# Altium footprint library Capacitor Non-Polar Disc.PcbLib: 220 footprints (part 3 of 14)
Each footprint in its own frame and in the unit in brackets; x right, y up, seen from the top. Pads: shape width x height; smd on the part's side, far side on the other; paste and mask are expansions set on the pad; w line width, h text height; cw(c..) or ccw(c..) is an arc to the next point about the centre after c.
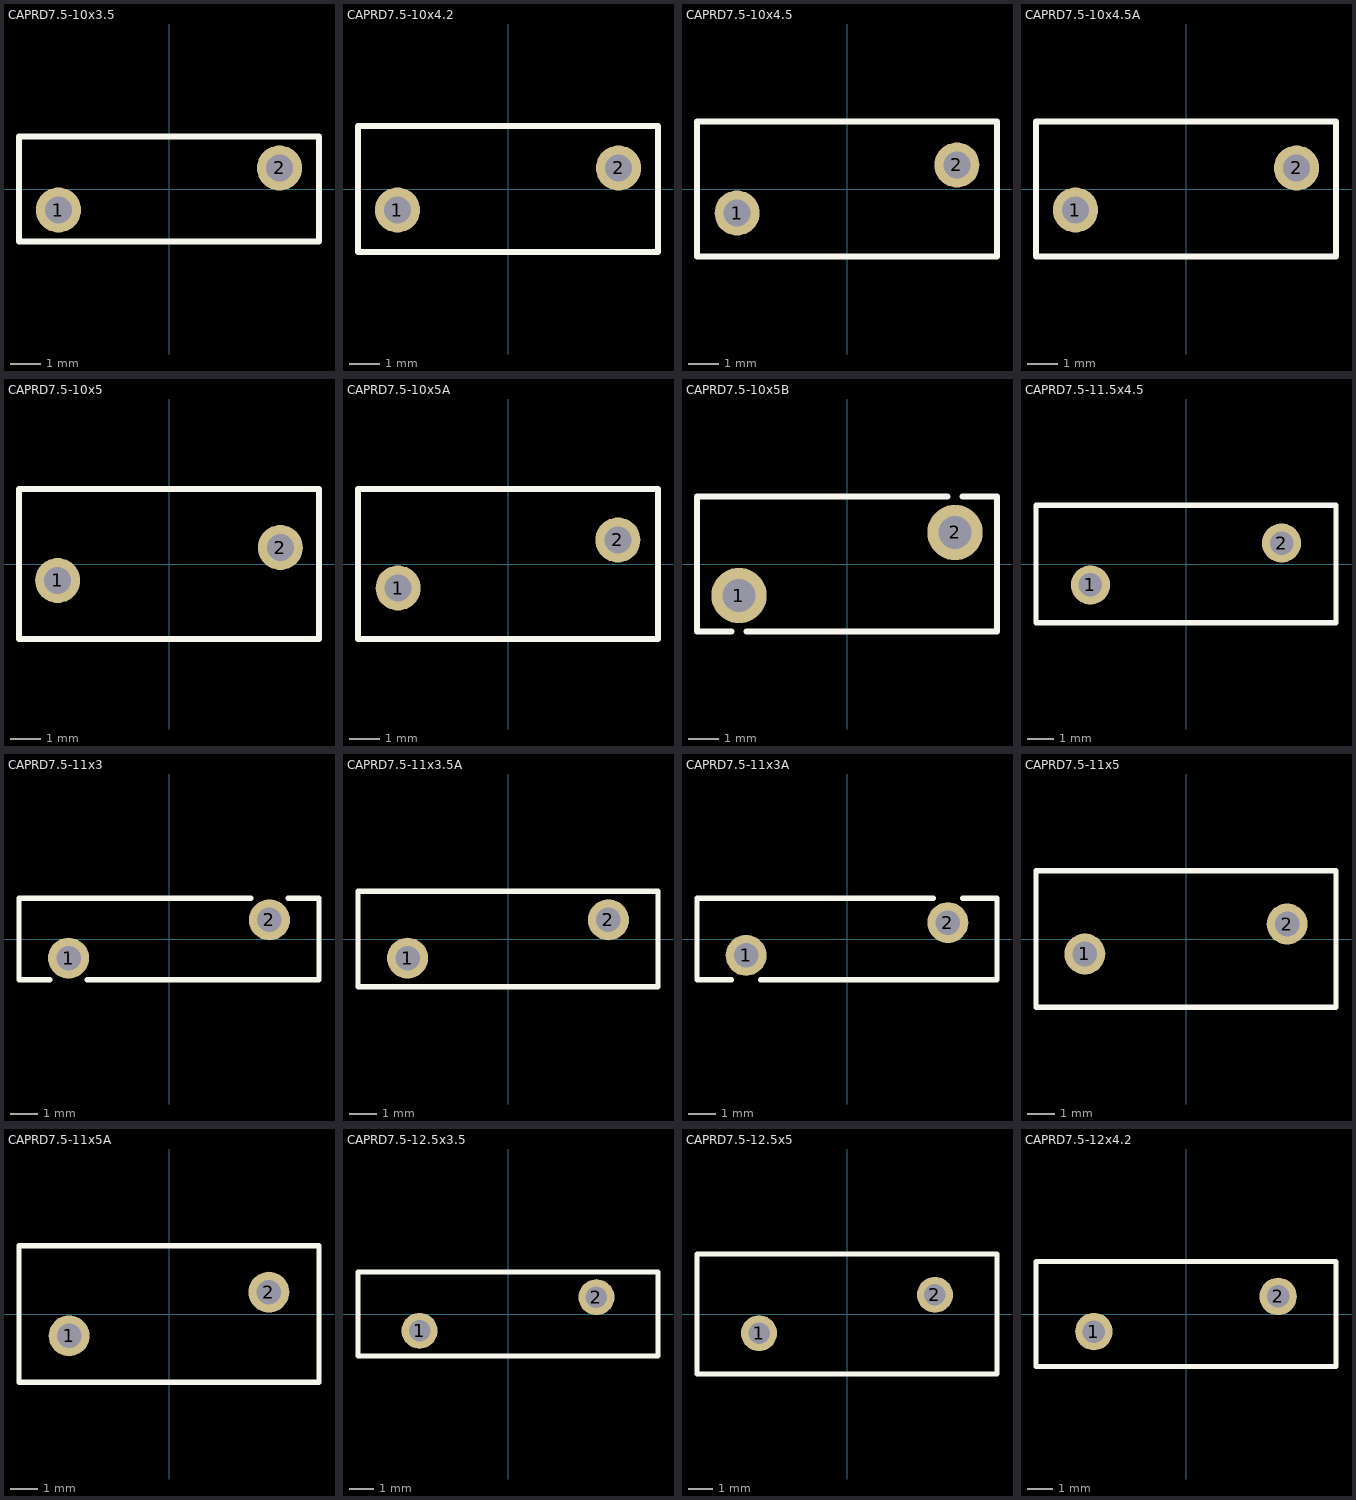
[diagram p2: the footprints below, top view; thin cyan lines are the x and y axes]

## CAPRD7.5-10x3.5 [mm] "Capacitor, Ceramic, Thru-Hole, Disc; Body 10 x 3.5 mm (LxW max) Pin Spacing 7.5 mm (typ)"
height 13
pads (2):
  round 1.5 hole 0.9: 1(-3.684,-0.7) 2(3.684,0.7)
Top Overlay:
  lines w0.2: -5,-1.75 5,-1.75 5,1.75 -5,1.75 -5,-1.75

## CAPRD7.5-10x4.2 [mm] "Capacitor, Ceramic, Thru-Hole, Disc; Body 10 x 4.2 mm (LxW max) Pin Spacing 7.5 mm (typ)"
height 13
pads (2):
  round 1.5 hole 0.9: 1(-3.684,-0.7) 2(3.684,0.7)
Top Overlay:
  lines w0.2: -5,-2.1 5,-2.1 5,2.1 -5,2.1 -5,-2.1

## CAPRD7.5-10x4.5 [mm] "Capacitor, Ceramic, Thru-Hole, Disc; Body 10 x 4.5 mm (LxW max) Pin Spacing 7.5 mm (typ)"
height 13
pads (2):
  round 1.5 hole 0.9: 1(-3.664,-0.8) 2(3.664,0.8)
Top Overlay:
  lines w0.2: -5,-2.25 5,-2.25 5,2.25 -5,2.25 -5,-2.25

## CAPRD7.5-10x4.5A [mm] "Capacitor, Ceramic, Thru-Hole, Disc; Body 10 x 4.5 mm (LxW max) Pin Spacing 7.5 mm (typ)"
height 13
pads (2):
  round 1.5 hole 0.9: 1(-3.684,-0.7) 2(3.684,0.7)
Top Overlay:
  lines w0.2: -5,-2.25 5,-2.25 5,2.25 -5,2.25 -5,-2.25

## CAPRD7.5-10x5 [mm] "Capacitor, Ceramic, Thru-Hole, Disc; Body 10 x 5 mm (LxW max) Pin Spacing 7.5 mm (typ)"
height 13
pads (2):
  round 1.5 hole 0.9: 1(-3.709,-0.55) 2(3.709,0.55)
Top Overlay:
  lines w0.2: -5,-2.5 5,-2.5 5,2.5 -5,2.5 -5,-2.5

## CAPRD7.5-10x5A [mm] "Capacitor, Ceramic, Thru-Hole, Disc; Body 10 x 5 mm (LxW max) Pin Spacing 7.5 mm (typ)"
height 13
pads (2):
  round 1.5 hole 0.9: 1(-3.664,-0.8) 2(3.664,0.8)
Top Overlay:
  lines w0.2: -5,-2.5 -5,2.5 5,2.5 5,-2.5 -5,-2.5

## CAPRD7.5-10x5B [mm] "Capacitor, Ceramic, Thru-Hole, Disc; Body 10 x 5 mm (LxW max) Pin Spacing 7.5 mm (typ)"
height 13
pads (2):
  round 1.85 hole 1.1: 1(-3.6,-1.05) 2(3.6,1.05)
Top Overlay:
  lines w0.2: -3.85,-2.25 -5,-2.25 -5,2.25 3.35,2.25 ; -3.35,-2.25 5,-2.25 5,2.25 3.85,2.25

## CAPRD7.5-11.5x4.5 [mm] "Capacitor, Ceramic, Thru-Hole, Disc; Body 11.5 x 4.5 mm (LxW max) Pin Spacing 7.5 mm (typ)"
height 14.5
pads (2):
  round 1.5 hole 0.9: 1(-3.664,-0.8) 2(3.664,0.8)
Top Overlay:
  lines w0.2: -5.75,-2.25 -5.75,2.25 5.75,2.25 5.75,-2.25 -5.75,-2.25

## CAPRD7.5-11x3 [mm] "Capacitor, Ceramic, Thru-Hole, Disc; Body 11 x 3 mm (LxW max) Pin Spacing 7.5 mm (typ)"
height 14
pads (2):
  round 1.5 hole 0.9: 1(-3.684,-0.7) 2(3.684,0.7)
Top Overlay:
  lines w0.2: -4.364,-1.5 -5.5,-1.5 -5.5,1.5 3.004,1.5 ; -3.004,-1.5 5.5,-1.5 5.5,1.5 4.364,1.5

## CAPRD7.5-11x3.5A [mm] "Capacitor, Ceramic, Thru-Hole, Disc; Body 11 x 3.5 mm (LxW max) Pin Spacing 7.5 mm (typ)"
height 14
pads (2):
  round 1.5 hole 0.9: 1(-3.684,-0.7) 2(3.684,0.7)
Top Overlay:
  lines w0.2: -5.5,-1.75 -5.5,1.75 5.5,1.75 5.5,-1.75 -5.5,-1.75

## CAPRD7.5-11x3A [mm] "Capacitor, Ceramic, Thru-Hole, Disc; Body 11 x 3 mm (LxW max) Pin Spacing 7.5 mm (typ)"
height 14
pads (2):
  round 1.5 hole 0.9: 1(-3.702,-0.6) 2(3.702,0.6)
Top Overlay:
  lines w0.2: -4.243,-1.5 -5.5,-1.5 -5.5,1.5 3.16,1.5 ; -3.16,-1.5 5.5,-1.5 5.5,1.5 4.243,1.5

## CAPRD7.5-11x5 [mm] "Capacitor, Ceramic, Thru-Hole, Disc; Body 11 x 5 mm (LxW max) Pin Spacing 7.5 mm (typ)"
height 14
pads (2):
  round 1.5 hole 0.9: 1(-3.709,-0.55) 2(3.709,0.55)
Top Overlay:
  lines w0.2: -5.5,-2.5 5.5,-2.5 5.5,2.5 -5.5,2.5 -5.5,-2.5

## CAPRD7.5-11x5A [mm] "Capacitor, Ceramic, Thru-Hole, Disc; Body 11 x 5 mm (LxW max) Pin Spacing 7.5 mm (typ)"
height 14
pads (2):
  round 1.5 hole 0.9: 1(-3.664,-0.8) 2(3.664,0.8)
Top Overlay:
  lines w0.2: -5.5,-2.5 5.5,-2.5 5.5,2.5 -5.5,2.5 -5.5,-2.5

## CAPRD7.5-12.5x3.5 [mm] "Capacitor, Ceramic, Thru-Hole, Disc; Body 12.5 x 3.5 mm (LxW max) Pin Spacing 7.5 mm (typ)"
height 15.5
pads (2):
  round 1.5 hole 0.9: 1(-3.684,-0.7) 2(3.684,0.7)
Top Overlay:
  lines w0.2: -6.25,-1.75 -6.25,1.75 6.25,1.75 6.25,-1.75 -6.25,-1.75

## CAPRD7.5-12.5x5 [mm] "Capacitor, Ceramic, Thru-Hole, Disc; Body 12.5 x 5 mm (LxW max) Pin Spacing 7.5 mm (typ)"
height 15.5
pads (2):
  round 1.5 hole 0.9: 1(-3.664,-0.8) 2(3.664,0.8)
Top Overlay:
  lines w0.2: -6.25,-2.5 -6.25,2.5 ; -6.25,-2.5 6.25,-2.5 ; -6.25,2.5 6.25,2.5 ; 6.25,-2.5 6.25,2.5

## CAPRD7.5-12x4.2 [mm] "Capacitor, Ceramic, Thru-Hole, Disc; Body 12 x 4.2 mm (LxW max) Pin Spacing 7.5 mm (typ)"
height 15
pads (2):
  round 1.5 hole 0.9: 1(-3.684,-0.7) 2(3.684,0.7)
Top Overlay:
  lines w0.2: -6,-2.1 6,-2.1 6,2.1 -6,2.1 -6,-2.1